# EAGLE library part RELAY_EE2 (library pimoroni-mechanical)
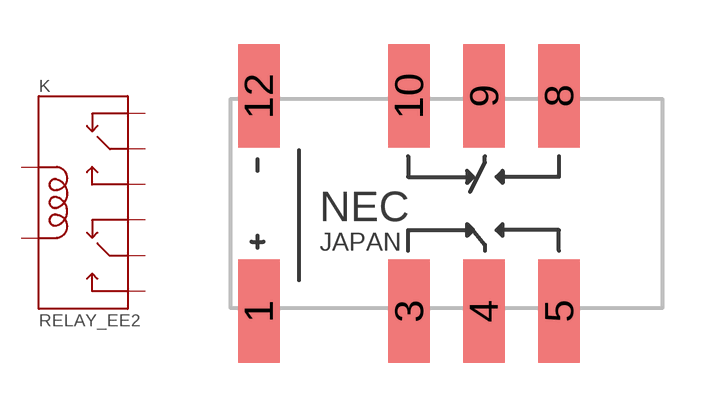
[diagram p0: symbol with the pads of RELAY-EE2; footprint RELAY-EE2]

Designator prefix K

## RELAY_EE2  [RELAY-EE2]
1  COIL+
3  ON1
4  MAIN1
5  OFF1
8  OFF2
9  MAIN2
10  ON2
12  COIL-

## Footprint RELAY-EE2 (pad centres in mm)
smd 1.4 x 3.5: 1 -6.35,-3.645; 3 -1.27,-3.645; 4 1.27,-3.645; 5 3.81,-3.645; 8 3.81,3.645; 9 1.27,3.645; 10 -1.27,3.645; 12 -6.35,3.645